# EAGLE library part TCAN337D (library BLHeli_32 45A)
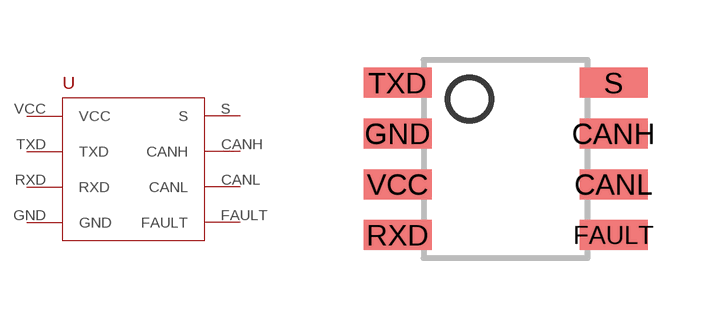
[diagram p1: symbol with the pads of TCAN337D; footprint TCAN337D]

Designator prefix -

## TCAN337D  [TCAN337D]
CANH  CANH
CANL  CANL
FAULT  FAULT
GND  GND
RXD  RXD
S  S
TXD  TXD
VCC  VCC

## Footprint TCAN337D (pad centres in mm)
smd 1.7 x 0.75: CANH 5.4,2.54; CANL 5.4,1.27; FAULT 5.4,0; GND 0,2.54; RXD 0,0; S 5.4,3.81; TXD 0,3.81; VCC 0,1.27